# Altium schematic symbol library TRANSISTOR.SchLib: 14 symbols
Pins are listed as number, name and electrical type; pins without a type are passive.

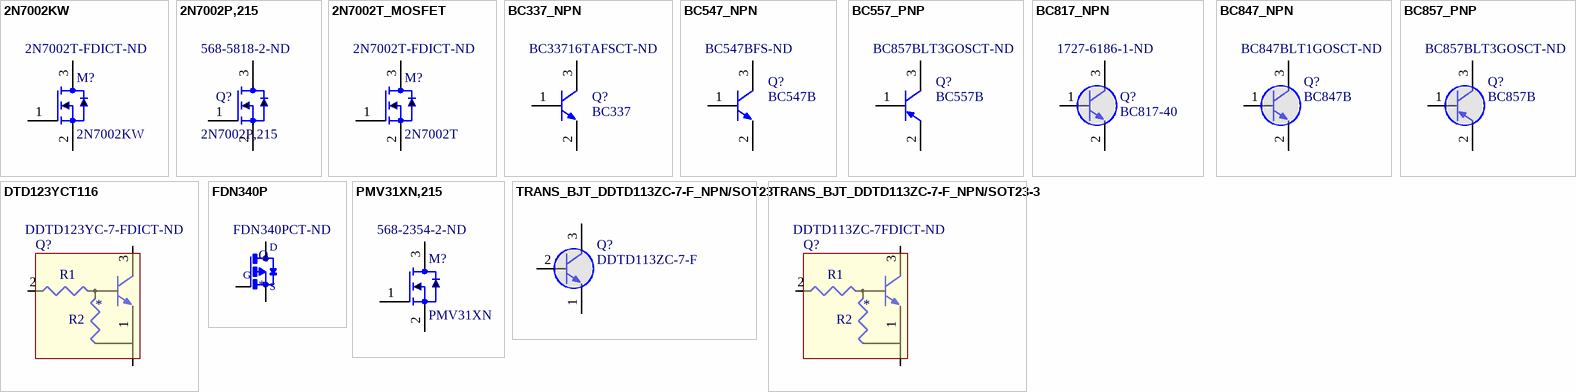
[diagram p0: symbols 2N7002KW to TRANS_BJT_DDTD113ZC-7-F_NPN/SOT23-3]

## 2N7002KW
designator M?  Supplier Part Number 1: 2N7002T-FDICT-ND
MOSFET N-Channel 60V 0.115A SOT523; Manufacturer: Diodes; Manufacturer Part Number: 2N7002T-7-F; Value: 2N7002T; Fabricante: DIODES INC; Continuous Drain Current (ID): 115mA; Gate to Source Voltage (Vgs): 20V; Turn-Off Delay Time: 11ns; Turn-On Delay Time: 7ns; Rds On Max: 7.5R; Input Capacitance: 50pF; Nominal Vgs: 2V; Number of Elements: 1; Max Power Dissipation: 150mW; Drain to Source Resistance: 4.4R; Element Configuration: Single; MPN: 2N7002T; Footprint: SOT523; ComponentLink1Description: LOJA; ComponentLink1URL: https://www.digikey.com/product-detail/en/diodes-incorporated/2N7002T-7-F/2N7002T-FDICT-ND/815290; ComponentLink2Description: DATASHEET; ComponentLink2URL: https://www.onsemi.com/pub/Collateral/2N7002KW-D.PDF; Supplier 1: Digi-Key; RoHS: Yes; Category: MOSFETs; Stock 1: 425890; Pricing 1: 1=0,38000, 10=0,28300, 25=0,24760, 100=0,13430, 250=0,13364, 500=0,10958, 1000=0,08131 (USD); Mount: Surface Mount; Case/Package: SOT-523; Number of Pins: 3; Weight: 7.1E-05oz; Contact Plating: Tin,Matte; Number of Terminals: 3; Min Operating Temperature: -55°C; Max Operating Temperature: 150°C; Packaging: Tape and Reel; Package Quantity: 3000; Number of Channels: 1; Drain to Source Voltage (Vdss): 60V; Power Dissipation: 150mW; Threshold Voltage: 2V; Min Breakdown Voltage: 60V; On-State Resistance: 7.5R; Voltage Rating (DC): 60V; Drain to Source Breakdown Voltage: 60V; Current Rating: 115mA; Length: 1.6mm; Height: 0.75mm; Width: 0.8mm; Radiation Hardening: No; REACH SVHC: No SVHC; Lead Free: Lead Free; ComponentLink3URL: https://datasheet.ciiva.com/17103/2n7002t-7-f-17103286.pdf?src-supplier=Allied+Electronics; ComponentLink3Description: https://datasheet.ciiva.com/17103/2n7002t-7-f-17103286.pdf?src-supplier=Allied+Electronics; ComponentLink4URL: https://datasheet.ciiva.com/3304/ds30301-3304394.pdf?src-supplier=Avnet; ComponentLink4Description: https://datasheet.ciiva.com/3304/ds30301-3304394.pdf?src-supplier=Avnet; ComponentLink5URL: https://datasheet.ciiva.com/34302/1538460-34302350.pdf?src-supplier=Jameco; ComponentLink5Description: https://datasheet.ciiva.com/34302/1538460-34302350.pdf?src-supplier=Jameco; ComponentLink6URL: https://datasheet.ciiva.com/15219/getdatasheetpartid-141065-15219671.pdf?src-supplier=Verical; ComponentLink6Description: https://datasheet.ciiva.com/15219/getdatasheetpartid-141065-15219671.pdf?src-supplier=Verical; ComponentLink7URL: https://datasheet.ciiva.com/22712/1915455-22712378.pdf?src-supplier=Element14; ComponentLink7Description: https://datasheet.ciiva.com/22712/1915455-22712378.pdf?src-supplier=Element14; ComponentLink8URL: https://datasheet.ciiva.com/3304/ds30301-3304395.pdf?src-supplier=Avnet; ComponentLink8Description: https://datasheet.ciiva.com/3304/ds30301-3304395.pdf?src-supplier=Avnet; ComponentLink9URL: https://datasheet.ciiva.com/1188/ds30301-1188477.pdf?src-supplier=Element14; ComponentLink9Description: https://datasheet.ciiva.com/1188/ds30301-1188477.pdf?src-supplier=Element14; ComponentLink10URL: https://datasheet.ciiva.com/934/ds30301-934599.pdf?src-supplier=Digi-Key; ComponentLink10Description: https://datasheet.ciiva.com/934/ds30301-934599.pdf?src-supplier=Digi-Key; ComponentLink11URL: https://datasheet.ciiva.com/934/ds30301-934600.pdf?src-supplier=Digi-Key; ComponentLink11Description: https://datasheet.ciiva.com/934/ds30301-934600.pdf?src-supplier=Digi-Key; ComponentLink12URL: https://datasheet.ciiva.com/934/ds30301-934601.pdf?src-supplier=Digi-Key; ComponentLink12Description: https://datasheet.ciiva.com/934/ds30301-934601.pdf?src-supplier=Digi-Key; ComponentLink13URL: https://datasheet.ciiva.com/16287/ds30301-16287372.pdf?src-supplier=Future+Electronics; ComponentLink13Description: https://datasheet.ciiva.com/16287/ds30301-16287372.pdf?src-supplier=Future+Electronics; ComponentLink14URL: https://datasheet.ciiva.com/17323/ds30301-17323949.pdf?src-supplier=Avnet+Europe; ComponentLink14Description: https://datasheet.ciiva.com/17323/ds30301-17323949.pdf?src-supplier=Avnet+Europe
footprint SOT65P210X110-3N (SOT23, 3-Leads, Body 2,00x2,10mm, Pitch 0,65mm, IPC Medium Density)
pins: 1 GATE, 2 SOURCE, 3 DRENO

## 2N7002P,215
designator Q?  Supplier Part Number 1: 568-5818-2-ND
N-Channel 60 V 1.6 Ohm 350 mW 0.8 nC Surface Mount TrenchMOS FET - SOT-23; Manufacturer: NXP Semiconductors; Manufacturer Part Number: 2N7002P215; Fabricante: Nexperia USA Inc.; Continuous Drain Current (ID): 360mA; Rise Time: 4ns; Power Dissipation: 420mW; Turn-Off Delay Time: 10ns; Turn-On Delay Time: 3ns; Number of Elements: 1; Gate to Source Voltage (Vgs): 20V; Rds On Max: 1.6R; Input Capacitance: 50pF; Nominal Vgs: 1.75V; Max Dual Supply Voltage: 60V; Max Power Dissipation: 350mW; Drain to Source Resistance: 1.3R; Element Configuration: Single; ComponentLink1Description: DATASHEET; ComponentLink1URL: https://assets.nexperia.com/documents/data-sheet/2N7002P.pdf; ComponentLink2Description: LOJA; ComponentLink2URL: https://www.digikey.com/product-detail/en/nexperia-usa-inc/2N7002P215/1727-4692-1-ND/2531105; Footprint: SOT-23; MPN: 2N7002P,215; Value: 2N7002P,215; Supplier 1: Digi-Key; RoHS: Yes; Category: MOSFETs; Case/Package: SOT; Number of Pins: 3; Contact Plating: Tin; Min Operating Temperature: -55°C; Max Operating Temperature: 150°C; Packaging: Tape and Reel; Fall Time: 4ns; Package Quantity: 1; Drain to Source Voltage (Vdss): 60V; Drain to Source Breakdown Voltage: 60V; Threshold Voltage: 1.75V; On-State Resistance: 1.6R; Radiation Hardening: No; REACH SVHC: No SVHC; Lead Free: Lead Free; ComponentLink3URL: https://datasheet.ciiva.com/6383/discretesemiconductors-6383819.pdf?src-supplier=Digi-Key; ComponentLink3Description: https://datasheet.ciiva.com/6383/discretesemiconductors-6383819.pdf?src-supplier=Digi-Key; ComponentLink4URL: https://datasheet.ciiva.com/8084/2n7002p-8084220.pdf?src-supplier=Avnet; ComponentLink4Description: https://datasheet.ciiva.com/8084/2n7002p-8084220.pdf?src-supplier=Avnet; ComponentLink5URL: https://datasheet.ciiva.com/22780/923163-22780748.pdf?src-supplier=Farnell; ComponentLink5Description: https://datasheet.ciiva.com/22780/923163-22780748.pdf?src-supplier=Farnell; ComponentLink6URL: https://datasheet.ciiva.com/6383/discretesemiconductors-6383821.pdf?src-supplier=Digi-Key; ComponentLink6Description: https://datasheet.ciiva.com/6383/discretesemiconductors-6383821.pdf?src-supplier=Digi-Key; ComponentLink7URL: https://datasheet.ciiva.com/22655/923163-22655469.pdf?src-supplier=Element14; ComponentLink7Description: https://datasheet.ciiva.com/22655/923163-22655469.pdf?src-supplier=Element14; ComponentLink8URL: https://datasheet.ciiva.com/6383/discretesemiconductors-6383822.pdf?src-supplier=Digi-Key; ComponentLink8Description: https://datasheet.ciiva.com/6383/discretesemiconductors-6383822.pdf?src-supplier=Digi-Key; ComponentLink9URL: https://datasheet.ciiva.com/16542/2n7002p-16542615.pdf?src-supplier=Avnet+Asia; ComponentLink9Description: https://datasheet.ciiva.com/16542/2n7002p-16542615.pdf?src-supplier=Avnet+Asia; ComponentLink10URL: https://datasheet.ciiva.com/36856/923163-36856168.pdf?src-supplier=Element14; ComponentLink10Description: https://datasheet.ciiva.com/36856/923163-36856168.pdf?src-supplier=Element14; ComponentLink11URL: https://datasheet.ciiva.com/33723/923163-33723785.pdf?src-supplier=Farnell; ComponentLink11Description: https://datasheet.ciiva.com/33723/923163-33723785.pdf?src-supplier=Farnell
footprint SOT23 (SOT23, 3-Leads, Body 2.90x2.30mm, Pitch 0.95mm, IPC Medium Density)
pins: 1 GATE, 2 SOURCE, 3 DRENO

## 2N7002T_MOSFET
designator M?, comment 2N7002T  Supplier Part Number 1: 2N7002T-FDICT-ND
MOSFET N-Channel 60V 0.115A SOT523; Manufacturer: Diodes; Manufacturer Part Number: 2N7002T-7-F; Fabricante: DIODES INC; Continuous Drain Current (ID): 115mA; Gate to Source Voltage (Vgs): 20V; Turn-Off Delay Time: 11ns; Turn-On Delay Time: 7ns; Rds On Max: 7.5R; Input Capacitance: 50pF; Nominal Vgs: 2V; Number of Elements: 1; Max Power Dissipation: 150mW; Drain to Source Resistance: 4.4R; Element Configuration: Single; Value: 2N7002T; MPN: 2N7002T; Footprint: SOT523; ComponentLink1Description: LOJA; ComponentLink1URL: https://www.digikey.com/product-detail/en/diodes-incorporated/2N7002T-7-F/2N7002T-FDICT-ND/815290; ComponentLink2Description: DATASHEET; ComponentLink2URL: https://www.diodes.com/assets/Datasheets/ds30301.pdf; Supplier 1: Digi-Key; RoHS: Yes; Category: MOSFETs; Stock 1: 425890; Pricing 1: 1=0,38000, 10=0,28300, 25=0,24760, 100=0,13430, 250=0,13364, 500=0,10958, 1000=0,08131 (USD); Mount: Surface Mount; Case/Package: SOT-523; Number of Pins: 3; Weight: 7.1E-05oz; Contact Plating: Tin,Matte; Number of Terminals: 3; Min Operating Temperature: -55°C; Max Operating Temperature: 150°C; Packaging: Tape and Reel; Package Quantity: 3000; Number of Channels: 1; Drain to Source Voltage (Vdss): 60V; Power Dissipation: 150mW; Threshold Voltage: 2V; Min Breakdown Voltage: 60V; On-State Resistance: 7.5R; Voltage Rating (DC): 60V; Drain to Source Breakdown Voltage: 60V; Current Rating: 115mA; Length: 1.6mm; Height: 0.75mm; Width: 0.8mm; Radiation Hardening: No; REACH SVHC: No SVHC; Lead Free: Lead Free; ComponentLink3URL: https://datasheet.ciiva.com/17103/2n7002t-7-f-17103286.pdf?src-supplier=Allied+Electronics; ComponentLink3Description: https://datasheet.ciiva.com/17103/2n7002t-7-f-17103286.pdf?src-supplier=Allied+Electronics; ComponentLink4URL: https://datasheet.ciiva.com/3304/ds30301-3304394.pdf?src-supplier=Avnet; ComponentLink4Description: https://datasheet.ciiva.com/3304/ds30301-3304394.pdf?src-supplier=Avnet; ComponentLink5URL: https://datasheet.ciiva.com/34302/1538460-34302350.pdf?src-supplier=Jameco; ComponentLink5Description: https://datasheet.ciiva.com/34302/1538460-34302350.pdf?src-supplier=Jameco; ComponentLink6URL: https://datasheet.ciiva.com/15219/getdatasheetpartid-141065-15219671.pdf?src-supplier=Verical; ComponentLink6Description: https://datasheet.ciiva.com/15219/getdatasheetpartid-141065-15219671.pdf?src-supplier=Verical; ComponentLink7URL: https://datasheet.ciiva.com/22712/1915455-22712378.pdf?src-supplier=Element14; ComponentLink7Description: https://datasheet.ciiva.com/22712/1915455-22712378.pdf?src-supplier=Element14; ComponentLink8URL: https://datasheet.ciiva.com/3304/ds30301-3304395.pdf?src-supplier=Avnet; ComponentLink8Description: https://datasheet.ciiva.com/3304/ds30301-3304395.pdf?src-supplier=Avnet; ComponentLink9URL: https://datasheet.ciiva.com/1188/ds30301-1188477.pdf?src-supplier=Element14; ComponentLink9Description: https://datasheet.ciiva.com/1188/ds30301-1188477.pdf?src-supplier=Element14; ComponentLink10URL: https://datasheet.ciiva.com/934/ds30301-934599.pdf?src-supplier=Digi-Key; ComponentLink10Description: https://datasheet.ciiva.com/934/ds30301-934599.pdf?src-supplier=Digi-Key; ComponentLink11URL: https://datasheet.ciiva.com/934/ds30301-934600.pdf?src-supplier=Digi-Key; ComponentLink11Description: https://datasheet.ciiva.com/934/ds30301-934600.pdf?src-supplier=Digi-Key; ComponentLink12URL: https://datasheet.ciiva.com/934/ds30301-934601.pdf?src-supplier=Digi-Key; ComponentLink12Description: https://datasheet.ciiva.com/934/ds30301-934601.pdf?src-supplier=Digi-Key; ComponentLink13URL: https://datasheet.ciiva.com/16287/ds30301-16287372.pdf?src-supplier=Future+Electronics; ComponentLink13Description: https://datasheet.ciiva.com/16287/ds30301-16287372.pdf?src-supplier=Future+Electronics; ComponentLink14URL: https://datasheet.ciiva.com/17323/ds30301-17323949.pdf?src-supplier=Avnet+Europe; ComponentLink14Description: https://datasheet.ciiva.com/17323/ds30301-17323949.pdf?src-supplier=Avnet+Europe
footprint SOT523 (SOT523, 3-Leads, Body 1.60x1.60mm, Pitch 0.50mm, IPC Medium Density)
pins: 1 GATE, 2 SOURCE, 3 DRENO

## BC337_NPN
designator Q?, comment BC337  Supplier Part Number 1: BC33716TAFSCT-ND
Trans GP BJT NPN 45V 0.8A 3-Pin TO-92 Ammo; Manufacturer: ON Semiconductor / Fairchild; Manufacturer Part Number: BC33716TA; Fabricante: ON SEMI; Max Collector Current: 800mA; Transition Frequency: 100MHz; Emitter Base Voltage (VEBO): 5V; Collector Emitter Saturation Voltage: 700mV; Number of Elements: 1; Power Dissipation: 625mW; Element Configuration: Single; hFE Min: 100; Collector Base Voltage (VCBO): 10V; Value: BC337; MPN: BC337; Footprint: TO92; Supplier 1: Digi-Key; RoHS: Yes; Category: BJTs; Stock 1: 4944; Pricing 1: 1=0,28000, 10=0,23100, 25=0,19360, 100=0,09460, 250=0,09308, 500=0,07890, 1000=0,05483 (USD); Mount: Through Hole; Case/Package: TO-92; Number of Pins: 3; Weight: 0.24g; Contact Plating: Tin,Matte; Min Operating Temperature: -55°C; Max Operating Temperature: 150°C; Collector Emitter Breakdown Voltage: 45V; Polarity: NPN; Gain Bandwidth Product: 100MHz; Voltage Rating (DC): 45V; Current Rating: 800mA; Package Quantity: 1; Collector Emitter Voltage (VCEO): 45V; Packaging: Ammo Pack; Frequency: 100MHz; Max Power Dissipation: 625mW; Max Breakdown Voltage: 45V; Max Frequency: 100MHz; Length: 4.58mm; Height: 4.58mm; Width: 3.86mm; Radiation Hardening: No; Lead Free: Lead Free; REACH SVHC: No SVHC; ComponentLink1URL: https://datasheet.ciiva.com/6360/bc337-6360917.pdf?src-supplier=Digi-Key; ComponentLink1Description: https://datasheet.ciiva.com/6360/bc337-6360917.pdf?src-supplier=Digi-Key; ComponentLink2URL: https://datasheet.ciiva.com/6360/bc337-6360920.pdf?src-supplier=Digi-Key; ComponentLink2Description: https://datasheet.ciiva.com/6360/bc337-6360920.pdf?src-supplier=Digi-Key; ComponentLink3URL: https://datasheet.ciiva.com/25995/bc338-25995189.pdf?src-supplier=Avnet+Europe; ComponentLink3Description: https://datasheet.ciiva.com/25995/bc338-25995189.pdf?src-supplier=Avnet+Europe; ComponentLink4URL: https://datasheet.ciiva.com/11205/bc338-11205911.pdf?src-supplier=Avnet; ComponentLink4Description: https://datasheet.ciiva.com/11205/bc338-11205911.pdf?src-supplier=Avnet
footprint TO92 (TO, Flat Index; 3 In-Line, Axial Leads; Body Dia. 4.8mm; Leads 0.48 x 0.5 mm (max))
pins: 1 BASE, 2 EMISSOR, 3 COLETOR

## BC547_NPN
designator Q?, comment BC547B  Supplier Part Number 1: BC547BFS-ND
ON SEMICONDUCTOR - BC547B - Bipolar (BJT) Single Transistor, General Purpose, NPN, 45 V, 300 MHz, 500 mW, 100 mA, 110 hFE; Manufacturer: ON Semiconductor / Fairchild; Fabricante: ON SEMI; Collector Emitter Voltage (VCEO): 45V; Collector Base Voltage (VCBO): 50V; Max Power Dissipation: 500mW; Emitter Base Voltage (VEBO): 6V; Max Collector Current: 100mA; Number of Elements: 1; Frequency: 300MHz; hFE Min: 200; Gain Bandwidth Product: 100MHz; Collector Emitter Saturation Voltage: 300mV; Voltage: 40V; Value: BC547B; Footprint: TO 92; MPN: BC547B; ComponentLink1Description: DATASHEET; ComponentLink1URL: https://assets.nexperia.com/documents/data-sheet/BC847_SER.pdf; ComponentLink2Description: VENDEDOR; ComponentLink2URL: https://www.digikey.com/product-detail/en/on-semiconductor/BC547B/BC547BFS-ND/976366; Supplier 1: Digi-Key; Manufacturer Part Number: BC547B; RoHS: Yes; Category: BJTs; Stock 1: 20159; Pricing 1: 1=0,40000, 10=0,29900, 25=0,26200, 100=0,14210, 250=0,14136, 500=0,11594, 1000=0,08602, 2500=0,07555, 5000=0,06919 (USD); Mount: Through Hole; Case/Package: TO-92; Number of Pins: 3; Weight: 0.007055oz; Contact Plating: Copper,Tin,Silver; Min Operating Temperature: -65°C; Max Operating Temperature: 150°C; Packaging: Bulk; Polarity: NPN; Power Dissipation: 500mW; Package Quantity: 2000; Collector Emitter Breakdown Voltage: 45V; Element Configuration: Single; Transition Frequency: 300MHz; Voltage Rating (DC): 45V; Current Rating: 100mA; Max Frequency: 300MHz; Max Breakdown Voltage: 45V; Length: 4.58mm; Height: 4.58mm; Width: 3.86mm; Radiation Hardening: No; Lead Free: Lead Free; REACH SVHC: No SVHC; ComponentLink3URL: https://datasheet.ciiva.com/985/bc546-547-548rev5-985523.pdf?src-supplier=Digi-Key; ComponentLink3Description: https://datasheet.ciiva.com/985/bc546-547-548rev5-985523.pdf?src-supplier=Digi-Key; ComponentLink4URL: https://datasheet.ciiva.com/972/bc546-972262.pdf?src-supplier=Digi-Key; ComponentLink4Description: https://datasheet.ciiva.com/972/bc546-972262.pdf?src-supplier=Digi-Key; ComponentLink5URL: https://datasheet.ciiva.com/1195/1868820-1195464.pdf?src-supplier=Element14; ComponentLink5Description: https://datasheet.ciiva.com/1195/1868820-1195464.pdf?src-supplier=Element14; ComponentLink6URL: https://datasheet.ciiva.com/25996/bc550-25996616.pdf?src-supplier=Avnet+Europe; ComponentLink6Description: https://datasheet.ciiva.com/25996/bc550-25996616.pdf?src-supplier=Avnet+Europe; ComponentLink7URL: https://datasheet.ciiva.com/11197/bc550-11197769.pdf?src-supplier=Avnet; ComponentLink7Description: https://datasheet.ciiva.com/11197/bc550-11197769.pdf?src-supplier=Avnet; ComponentLink8URL: https://datasheet.ciiva.com/16472/bc550-16472201.pdf?src-supplier=Avnet+Asia; ComponentLink8Description: https://datasheet.ciiva.com/16472/bc550-16472201.pdf?src-supplier=Avnet+Asia; ComponentLink9URL: https://datasheet.ciiva.com/17011/bc547-17011404.pdf?src-supplier=Future+Electronics; ComponentLink9Description: https://datasheet.ciiva.com/17011/bc547-17011404.pdf?src-supplier=Future+Electronics
footprint TO92 (TO, Flat Index; 3 In-Line, Axial Leads; Body Dia. 4.8mm; Leads 0.48 x 0.5 mm (max))
pins: 1 BASE, 2 EMISSOR, 3 COLETOR

## BC557_PNP
designator Q?, comment BC557B  Supplier Part Number 1: BC857BLT3GOSCT-ND
TRANS PNP 45V 0.1A SOT-23; Manufacturer: ON Semiconductor; Manufacturer Part Number: BC857BLT3G; Fabricante: ON SEMI; Max Power Dissipation: 300mW; Max Collector Current: 100mA; Transition Frequency: 100MHz; Collector Base Voltage (VCBO): 50V; hFE Min: 220; Emitter Base Voltage (VEBO): 5V; Number of Elements: 1; Element Configuration: Single; Collector Emitter Saturation Voltage: -650mV; Voltage Rating (DC): -45V; Current Rating: -100mA; Value: BC557B; Footprint: TO 92; MPN: BC557B; ComponentLink1Description: DATASHEET; ComponentLink1URL: https://assets.nexperia.com/documents/data-sheet/BC847_SER.pdf; ComponentLink2Description: LOJA; ComponentLink2URL: https://www.digikey.com/product-detail/en/on-semiconductor/BC857BLT3G/BC857BLT3GOSCT-ND/2704963; Supplier 1: Digi-Key; RoHS: Yes; Category: BJTs; Stock 1: 43319; Pricing 1: 1=0,12000, 10=0,11300, 25=0,10760, 100=0,04730, 250=0,04540, 500=0,03716, 1000=0,02580, 2500=0,02253, 5000=0,02021 (USD); Case/Package: SOT-23-3; Number of Pins: 3; Min Operating Temperature: -55°C; Max Operating Temperature: 150°C; Collector Emitter Voltage (VCEO): 45V; Packaging: Tape and Reel; Collector Emitter Breakdown Voltage: 45V; Package Quantity: 10000; Frequency: 100MHz; Polarity: PNP; Max Breakdown Voltage: 45V; Power Dissipation: 300mW; Gain Bandwidth Product: 100MHz; Radiation Hardening: No; Lead Free: Lead Free; ComponentLink3URL: https://datasheet.ciiva.com/980/bc856alt1-d-980669.pdf?src-supplier=Digi-Key; ComponentLink3Description: https://datasheet.ciiva.com/980/bc856alt1-d-980669.pdf?src-supplier=Digi-Key; ComponentLink4URL: https://datasheet.ciiva.com/980/bc856alt1-d-980670.pdf?src-supplier=Digi-Key; ComponentLink4Description: https://datasheet.ciiva.com/980/bc856alt1-d-980670.pdf?src-supplier=Digi-Key; ComponentLink5URL: https://datasheet.ciiva.com/980/bc856alt1-d-980671.pdf?src-supplier=Digi-Key; ComponentLink5Description: https://datasheet.ciiva.com/980/bc856alt1-d-980671.pdf?src-supplier=Digi-Key
footprint TO92 (TO, Flat Index; 3 In-Line, Axial Leads; Body Dia. 4.8mm; Leads 0.48 x 0.5 mm (max))
pins: 1 BASE, 2 EMISSOR, 3 COLETOR

## BC817_NPN
designator Q?, comment BC817-40  Supplier Part Number 1: 1727-6186-1-ND
On a Reel of 10000, Nexperia BC817-40, 235 NPN Transistor, 500 mA, 45 V, 3-Pin TO-236; Fabricante: ST; MPN: BC817-40; Footprint: SOT-23; Value: BC817-40; ComponentLink1Description: Datasheet; ComponentLink1URL: https://media.digikey.com/pdf/Data%20Sheets/ST%20Microelectronics%20PDFS/BC817-25,%20BC817-40.pdf; ComponentLink2Description: Loja; ComponentLink2URL: https://www.digikey.com/product-detail/en/nexperia-usa-inc/BC817-40235/1727-6186-2-ND/1232251; Supplier 1: Digi-Key; Manufacturer: Nexperia; Manufacturer Part Number: BC817-40,235; RoHS: No; Stock 1: 29827; Pricing 1: 1=0,14000, 10=0,12300, 25=0,11760, 100=0,05170, 250=0,04964, 500=0,04060, 1000=0,02820, 2500=0,02463, 5000=0,02209 (USD); ComponentLink3URL: https://assets.nexperia.com/documents/data-sheet/BC817_BC817W_BC337.pdf?src-supplier=Digi-Key; ComponentLink3Description: https://assets.nexperia.com/documents/data-sheet/BC817_BC817W_BC337.pdf?src-supplier=Digi-Key
footprint SOT23 - BC817 (SMALL SIGNAL NPN TRANSISTORS - BC817_40_6C - SILICON EPITAXIAL PLANAR NPN TRANSISTORS - VCBO=50V - VCEO=45V - VEBO=5V - IC=0.5A - Tj=150ºC)
pins: 1 BASE, 2 EMISSOR, 3 COLETOR

## BC847_NPN
designator Q?, comment BC847B  Supplier Part Number 1: BC847BLT1GOSCT-ND
Transistor; Bipolar; Si; NPN; General Purpose; VCEO 45VDC; IC 100mA; PD 225mW; SOT-23; Manufacturer: ON Semiconductor; Manufacturer Part Number: BC847BLT1G; Fabricante: NEXPERIA; Max Power Dissipation: 300mW; Collector Emitter Voltage (VCEO): 45V; Collector Base Voltage (VCBO): 50V; Number of Elements: 1; Frequency: 100MHz; hFE Min: 200; Emitter Base Voltage (VEBO): 6V; Element Configuration: Single; Collector Emitter Saturation Voltage: 600mV; Value: BC847B; Footprint: SOT23; MPN: BC847B; ComponentLink1Description: DATASHEET; ComponentLink1URL: https://assets.nexperia.com/documents/data-sheet/BC847_SER.pdf; ComponentLink2Description: VENDEDOR; ComponentLink2URL: https://www.digikey.com/product-detail/en/on-semiconductor/BC847BLT1G/BC847BLT1GOSCT-ND/917834; Supplier 1: Digi-Key; RoHS: Yes; Category: BJTs; Stock 1: 319101; Pricing 1: 1=0,12000, 10=0,11300, 25=0,10760, 100=0,04730, 250=0,04540, 500=0,03716, 1000=0,02580 (USD); Case/Package: SOT-23-3; Number of Pins: 3; Contact Plating: Tin,Matte; Min Operating Temperature: -55°C; Max Operating Temperature: 150°C; Packaging: Tape and Reel; Max Collector Current: 100mA; Collector Emitter Breakdown Voltage: 45V; Polarity: NPN; Power Dissipation: 300mW; Package Quantity: 1; Transition Frequency: 100MHz; Max Breakdown Voltage: 45V; Max Frequency: 100MHz; Voltage Rating (DC): 45V; Current Rating: 100mA; Gain Bandwidth Product: 100MHz; Type: General Purpose; Length: 0.119inch; Height: 0.04inch; Width: 0.055inch; Radiation Hardening: No; Lead Free: Lead Free; Halogen Free: Halogen Free; REACH SVHC: No SVHC; ComponentLink3URL: https://datasheet.ciiva.com/15138/getdatasheetpartid-38434-15138610.pdf?src-supplier=Verical; ComponentLink3Description: https://datasheet.ciiva.com/15138/getdatasheetpartid-38434-15138610.pdf?src-supplier=Verical; ComponentLink4URL: https://datasheet.ciiva.com/34303/2010333-34303810.pdf?src-supplier=Jameco; ComponentLink4Description: https://datasheet.ciiva.com/34303/2010333-34303810.pdf?src-supplier=Jameco; ComponentLink5URL: https://datasheet.ciiva.com/22696/1911603-22696694.pdf?src-supplier=Element14; ComponentLink5Description: https://datasheet.ciiva.com/22696/1911603-22696694.pdf?src-supplier=Element14; ComponentLink6URL: https://datasheet.ciiva.com/11197/bc846alt1-d-11197558.pdf?src-supplier=Avnet; ComponentLink6Description: https://datasheet.ciiva.com/11197/bc846alt1-d-11197558.pdf?src-supplier=Avnet; ComponentLink7URL: https://datasheet.ciiva.com/1195/1911603-1195977.pdf?src-supplier=Element14; ComponentLink7Description: https://datasheet.ciiva.com/1195/1911603-1195977.pdf?src-supplier=Element14; ComponentLink8URL: https://datasheet.ciiva.com/976/bc846alt1-d-976379.pdf?src-supplier=Digi-Key; ComponentLink8Description: https://datasheet.ciiva.com/976/bc846alt1-d-976379.pdf?src-supplier=Digi-Key; ComponentLink9URL: https://datasheet.ciiva.com/16478/bc846alt1-d-16478983.pdf?src-supplier=Avnet+Asia; ComponentLink9Description: https://datasheet.ciiva.com/16478/bc846alt1-d-16478983.pdf?src-supplier=Avnet+Asia; ComponentLink10URL: https://datasheet.ciiva.com/976/bc846alt1-d-976377.pdf?src-supplier=Digi-Key; ComponentLink10Description: https://datasheet.ciiva.com/976/bc846alt1-d-976377.pdf?src-supplier=Digi-Key; ComponentLink11URL: https://datasheet.ciiva.com/976/bc846alt1-d-976378.pdf?src-supplier=Digi-Key; ComponentLink11Description: https://datasheet.ciiva.com/976/bc846alt1-d-976378.pdf?src-supplier=Digi-Key; ComponentLink12URL: https://datasheet.ciiva.com/22664/1571861-22664109.pdf?src-supplier=Element14; ComponentLink12Description: https://datasheet.ciiva.com/22664/1571861-22664109.pdf?src-supplier=Element14
footprint SOT23 (SOT23, 3-Leads, Body 2.90x2.30mm, Pitch 0.95mm, IPC Medium Density)
pins: 1 BASE, 2 EMISSOR, 3 COLETOR

## BC857_PNP
designator Q?, comment BC857B  Supplier Part Number 1: BC857BLT3GOSCT-ND
TRANS PNP 45V 0.1A SOT-23; Manufacturer: ON Semiconductor; Manufacturer Part Number: BC857BLT3G; Fabricante: NEXPERIA; Max Power Dissipation: 300mW; Max Collector Current: 100mA; Transition Frequency: 100MHz; Collector Base Voltage (VCBO): 50V; hFE Min: 220; Emitter Base Voltage (VEBO): 5V; Number of Elements: 1; Element Configuration: Single; Collector Emitter Saturation Voltage: -650mV; Voltage Rating (DC): -45V; Current Rating: -100mA; Value: BC857B; Footprint: SOT23; MPN: BC857B; ComponentLink1Description: DATASHEET; ComponentLink1URL: https://assets.nexperia.com/documents/data-sheet/BC847_SER.pdf; ComponentLink2Description: LOJA; ComponentLink2URL: https://www.digikey.com/product-detail/en/on-semiconductor/BC857BLT3G/BC857BLT3GOSCT-ND/2704963; Supplier 1: Digi-Key; RoHS: Yes; Category: BJTs; Stock 1: 43319; Pricing 1: 1=0,12000, 10=0,11300, 25=0,10760, 100=0,04730, 250=0,04540, 500=0,03716, 1000=0,02580, 2500=0,02253, 5000=0,02021 (USD); Case/Package: SOT-23-3; Number of Pins: 3; Min Operating Temperature: -55°C; Max Operating Temperature: 150°C; Collector Emitter Voltage (VCEO): 45V; Packaging: Tape and Reel; Collector Emitter Breakdown Voltage: 45V; Package Quantity: 10000; Frequency: 100MHz; Polarity: PNP; Max Breakdown Voltage: 45V; Power Dissipation: 300mW; Gain Bandwidth Product: 100MHz; Radiation Hardening: No; Lead Free: Lead Free; ComponentLink3URL: https://datasheet.ciiva.com/980/bc856alt1-d-980669.pdf?src-supplier=Digi-Key; ComponentLink3Description: https://datasheet.ciiva.com/980/bc856alt1-d-980669.pdf?src-supplier=Digi-Key; ComponentLink4URL: https://datasheet.ciiva.com/980/bc856alt1-d-980670.pdf?src-supplier=Digi-Key; ComponentLink4Description: https://datasheet.ciiva.com/980/bc856alt1-d-980670.pdf?src-supplier=Digi-Key; ComponentLink5URL: https://datasheet.ciiva.com/980/bc856alt1-d-980671.pdf?src-supplier=Digi-Key; ComponentLink5Description: https://datasheet.ciiva.com/980/bc856alt1-d-980671.pdf?src-supplier=Digi-Key
footprint SOT23 (SOT23, 3-Leads, Body 2.90x2.30mm, Pitch 0.95mm, IPC Medium Density)
pins: 1 BASE, 2 EMISSOR, 3 COLETOR

## DTD123YCT116
designator Q?  Supplier Part Number 2: DDTD123YC-7-FDICT-ND
TRANS PREBIAS NPN 200MW SOT23-3; Manufacturer: Rohm; Manufacturer Part Number: DTD123YCT116; Max Collector Current: 500mA; Collector Emitter Voltage (VCEO): 300mV; Transition Frequency: 200MHz; Collector Emitter Breakdown Voltage: 50V; Element Configuration: Single; hFE Min: 56; Emitter Base Voltage (VEBO): 5V; Supplier 1: Digi-Key; Supplier Part Number 1: DTD123YCT116CT-ND; Stock 1: 2987; Pricing 1: 1=0,30000, 10=0,24400, 25=0,20440, 100=0,09990, 250=0,09828, 500=0,08330, 1000=0,05789 (USD); RoHS: Yes; Mount: Surface Mount; Case/Package: TO-236-3; Packaging: Tape and Reel; Max Power Dissipation: 200mW; Max Breakdown Voltage: 50V; ComponentLink1URL: http://rohmfs.rohm.com/en/products/databook/datasheet/discrete/transistor/digital/dtd123yct116-e.pdf?src-supplier=Digi-Key; ComponentLink1Description: http://rohmfs.rohm.com/en/products/databook/datasheet/discrete/transistor/digital/dtd123yct116-e.pdf?src-supplier=Digi-Key; Supplier 2: Digi-Key; Category: BJTs; Stock 2: 4945; Pricing 2: 1=0,29000, 10=0,23900, 25=0,20000, 100=0,09780, 250=0,09620, 500=0,08154, 1000=0,05666 (USD); Number of Pins: 3; Weight: 0.000282oz; Min Operating Temperature: -55°C; Max Operating Temperature: 150°C; Package Quantity: 3000; Polarity: NPN; Continuous Collector Current: 500mA; Max Output Current: 500mA; Operating Supply Voltage: 50V; Length: 3.05mm; Height: 1mm; Width: 1.4mm; Radiation Hardening: No; Lead Free: Lead Free; ComponentLink2URL: https://datasheet.ciiva.com/11208/ds30384-11208977.pdf?src-supplier=Avnet; ComponentLink2Description: https://datasheet.ciiva.com/11208/ds30384-11208977.pdf?src-supplier=Avnet; ComponentLink3URL: https://datasheet.ciiva.com/987/ds30384-987456.pdf?src-supplier=Digi-Key; ComponentLink3Description: https://datasheet.ciiva.com/987/ds30384-987456.pdf?src-supplier=Digi-Key; ComponentLink4URL: https://datasheet.ciiva.com/16616/ds30384-16616286.pdf?src-supplier=Avnet+Europe; ComponentLink4Description: https://datasheet.ciiva.com/16616/ds30384-16616286.pdf?src-supplier=Avnet+Europe
footprint SOT23 (SOT23, 3-Leads, Body 2.90x2.30mm, Pitch 0.95mm, IPC Medium Density)
pins: 1 EMISSOR, 2 BASE, 3 COLETOR
text: R1; R2

## FDN340P
designator Q  Supplier Part Number 1: FDN340PCT-ND
ON SEMICONDUCTOR - FDN340P - Power MOSFET, P Channel, 20 V, 2 A, 0.06 ohm, SuperSOT, Surface Mount; Manufacturer: ON Semiconductor / Fairchild; MF: MICROSS/On Semiconductor; Element Configuration: Single; Rds On Max: 70mR; Input Capacitance: 779pF; Rise Time: 9ns; Max Power Dissipation: 500mW; Drain to Source Voltage (Vdss): 20V; Continuous Drain Current (ID): 2A; Fall Time: 11ns; Drain to Source Resistance: 60mR; Turn-Off Delay Time: 27ns; Turn-On Delay Time: 10ns; Gate to Source Voltage (Vgs): 8V; Drain to Source Breakdown Voltage: -20V; Current Rating: -2A; Nominal Vgs: -800mV; Number of Elements: 1; Package: SC-59 ON Semiconductor; SnapEDA_Link: https://www.snapeda.com/parts/FDN340P/MICROSS/On%20Semiconductor/view-part/2331994/?ref=snap; MP: FDN340P; Value: *; Availability: Unavailable; Price: None; Supplier 1: Digi-Key; Manufacturer Part Number: FDN340P; RoHS: Yes; Category: MOSFETs; Stock 1: 46531; Pricing 1: 1=0,47000, 10=0,35700, 25=0,32160, 100=0,16970, 250=0,16788, 500=0,15034, 1000=0,11700 (USD); Mount: Surface Mount; Case/Package: SOT-23; Number of Pins: 3; Weight: 0.03g; Contact Plating: Tin,Matte; Min Operating Temperature: -55°C; Max Operating Temperature: 150°C; Package Quantity: 1; Packaging: Tape and Reel; Power Dissipation: 500mW; Termination: SMD/SMT; Voltage Rating (DC): -20V; Dual Supply Voltage: -20V; On-State Resistance: 70MR; Threshold Voltage: -800mV; Length: 2.92mm; Height: 0.94mm; Width: 3.05mm; Radiation Hardening: No; REACH SVHC: No SVHC; Lead Free: Lead Free; ComponentLink1URL: https://datasheet.ciiva.com/27050/890074-27050638.pdf?src-supplier=Jameco; ComponentLink1Description: https://datasheet.ciiva.com/27050/890074-27050638.pdf?src-supplier=Jameco; ComponentLink2URL: https://datasheet.ciiva.com/1255/fdn340p-1255857.pdf?src-supplier=Newark; ComponentLink2Description: https://datasheet.ciiva.com/1255/fdn340p-1255857.pdf?src-supplier=Newark; ComponentLink3URL: https://datasheet.ciiva.com/4440/fdn340p-103694-4440005.pdf?src-supplier=Mouser; ComponentLink3Description: https://datasheet.ciiva.com/4440/fdn340p-103694-4440005.pdf?src-supplier=Mouser; ComponentLink4URL: https://datasheet.ciiva.com/6037/276210-6037729.pdf?src-supplier=Farnell; ComponentLink4Description: https://datasheet.ciiva.com/6037/276210-6037729.pdf?src-supplier=Farnell; ComponentLink5URL: https://datasheet.ciiva.com/6383/fdn340p-6383557.pdf?src-supplier=Digi-Key; ComponentLink5Description: https://datasheet.ciiva.com/6383/fdn340p-6383557.pdf?src-supplier=Digi-Key; ComponentLink6URL: https://datasheet.ciiva.com/6383/fdn340p-6383559.pdf?src-supplier=Digi-Key; ComponentLink6Description: https://datasheet.ciiva.com/6383/fdn340p-6383559.pdf?src-supplier=Digi-Key; ComponentLink7URL: https://datasheet.ciiva.com/7968/276210-7968139.pdf?src-supplier=Element14; ComponentLink7Description: https://datasheet.ciiva.com/7968/276210-7968139.pdf?src-supplier=Element14; ComponentLink8URL: https://datasheet.ciiva.com/7968/276210-7968140.pdf?src-supplier=Element14; ComponentLink8Description: https://datasheet.ciiva.com/7968/276210-7968140.pdf?src-supplier=Element14; ComponentLink9URL: https://datasheet.ciiva.com/7968/276210-7968138.pdf?src-supplier=Element14; ComponentLink9Description: https://datasheet.ciiva.com/7968/276210-7968138.pdf?src-supplier=Element14; ComponentLink10URL: https://datasheet.ciiva.com/28548/276210-28548189.pdf?src-supplier=Element14; ComponentLink10Description: https://datasheet.ciiva.com/28548/276210-28548189.pdf?src-supplier=Element14
footprint SSOT-3
pins: 1 G, 2 S, 3 D

## PMV31XN,215
designator M?, comment PMV31XN  Supplier Part Number 1: 568-2354-2-ND
MOSFET N-CH TRENCH 20V; Manufacturer: NXP Semiconductors; Manufacturer Part Number: PMV31XN215; Value: PMV31XN,215; Fabricante: Rochester Electronics, LLC; Rise Time: 15ns; Continuous Drain Current (ID): 5.9A; Fall Time: 12ns; Turn-Off Delay Time: 25ns; Gate to Source Voltage (Vgs): 12V; Turn-On Delay Time: 10ns; Rds On Max: 37mR; Input Capacitance: 410pF; Number of Elements: 1; Max Power Dissipation: 2W; Element Configuration: Single; MPN: PMV31XN,215; Footprint: SOT523; ComponentLink1Description: LOJA; ComponentLink1URL: https://www.digikey.com/product-detail/en/rochester-electronics-llc/PMV31XN-215/2156-PMV31XN215-NXTR-ND/11545074; ComponentLink2Description: DATASHEET; ComponentLink2URL: https://4donline.ihs.com/images/VipMasterIC/IC/PHGL/PHGLS23737/PHGLS23737-1.pdf?hkey=EC6BD57738AE6E33B588C5F9AD3CEFA7; Supplier 1: Digi-Key; RoHS: Yes; Category: MOSFETs; Case/Package: SOT; Number of Pins: 3; Weight: 0.001lb; Min Operating Temperature: -55°C; Max Operating Temperature: 150°C; Package Quantity: 3000; Packaging: Tape and Reel; Max Dual Supply Voltage: 20V; Drain to Source Voltage (Vdss): 20V; Drain to Source Breakdown Voltage: 20V; Power Dissipation: 2W; Drain to Source Resistance: 37mR; On-State Resistance: 37MR; Length: 3mm; Height: 1mm; Width: 1.4mm; Radiation Hardening: No; Lead Free: Lead Free; ComponentLink3URL: https://datasheet.ciiva.com/5752/44004-5752432.pdf?src-supplier=Farnell; ComponentLink3Description: https://datasheet.ciiva.com/5752/44004-5752432.pdf?src-supplier=Farnell; ComponentLink4URL: https://datasheet.ciiva.com/6383/pmv31xn-6383171.pdf?src-supplier=Digi-Key; ComponentLink4Description: https://datasheet.ciiva.com/6383/pmv31xn-6383171.pdf?src-supplier=Digi-Key; ComponentLink5URL: https://datasheet.ciiva.com/4438/pmv31xn-103514-4438966.pdf?src-supplier=Mouser; ComponentLink5Description: https://datasheet.ciiva.com/4438/pmv31xn-103514-4438966.pdf?src-supplier=Mouser; ComponentLink6URL: https://datasheet.ciiva.com/26790/pmv31xn-215-26790661.pdf?src-supplier=IIIC; ComponentLink6Description: https://datasheet.ciiva.com/26790/pmv31xn-215-26790661.pdf?src-supplier=IIIC; ComponentLink7URL: https://datasheet.ciiva.com/6383/pmv31xn-6383173.pdf?src-supplier=Digi-Key; ComponentLink7Description: https://datasheet.ciiva.com/6383/pmv31xn-6383173.pdf?src-supplier=Digi-Key; ComponentLink8URL: https://datasheet.ciiva.com/11168/pmv31xn-11168583.pdf?src-supplier=Avnet; ComponentLink8Description: https://datasheet.ciiva.com/11168/pmv31xn-11168583.pdf?src-supplier=Avnet; ComponentLink9URL: https://datasheet.ciiva.com/16396/pmv31xn-16396189.pdf?src-supplier=Future+Electronics; ComponentLink9Description: https://datasheet.ciiva.com/16396/pmv31xn-16396189.pdf?src-supplier=Future+Electronics
footprint SOT65P210X110-3N (SOT23, 3-Leads, Body 2,00x2,10mm, Pitch 0,65mm, IPC Medium Density)
pins: 1 GATE, 2 SOURCE, 3 DRENO

## TRANS_BJT_DDTD113ZC-7-F_NPN/SOT23
designator Q?, comment DDTD113ZC-7-F
Pre-Biased Bipolar Transistor (BJT) NPN - Pre-Biased 50 V 500 mA 200 MHz 200 mW Surface Mount SOT-23-3; Supplier 1: Digi-Key; Supplier Part Number 1: DDTD113ZC-7FDICT-ND
footprint SOT23 (SOT23, 3-Leads, Body 2.90x2.30mm, Pitch 0.95mm, IPC Medium Density)
pins: 1 EMISSOR, 2 BASE, 3 COLETOR

## TRANS_BJT_DDTD113ZC-7-F_NPN/SOT23-3
designator Q?  Supplier Part Number 1: DDTD113ZC-7FDICT-ND
Pre-Biased Bipolar Transistor (BJT) NPN - Pre-Biased 50 V 500 mA 200 MHz 200 mW Surface Mount SOT-23-3; Supplier 1: Digi-Key
footprint SOT23 (SOT23, 3-Leads, Body 2.90x2.30mm, Pitch 0.95mm, IPC Medium Density)
pins: 1 EMISSOR, 2 BASE, 3 COLETOR
text: R1; R2